# Altium footprint library WDFN6.PcbLib: 1 footprints
Each footprint in its own frame and in the unit in brackets; x right, y up, seen from the top. Pads: shape width x height; smd on the part's side, far side on the other; paste and mask are expansions set on the pad; w line width, h text height; cw(c..) or ccw(c..) is an arc to the next point about the centre after c.
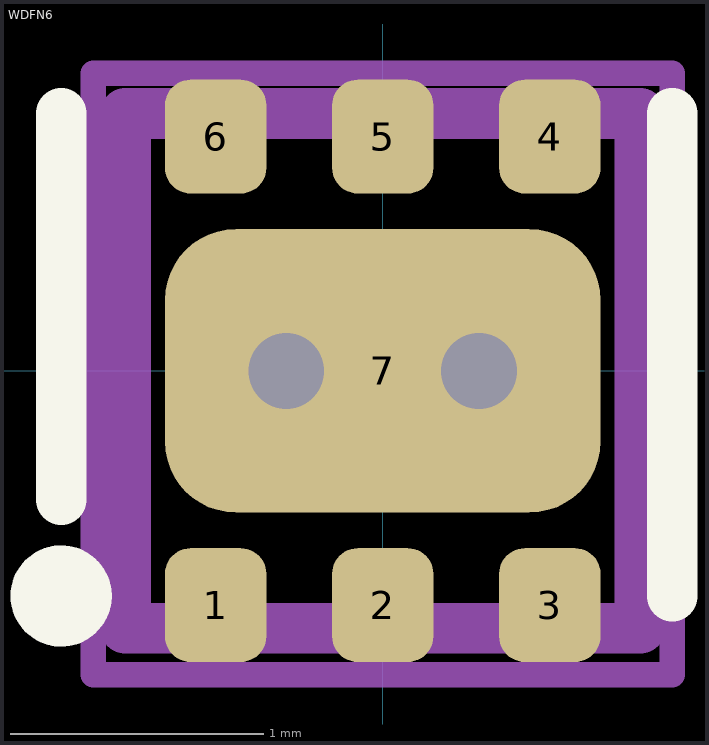
[diagram p0: the footprint, top view; thin cyan lines are the x and y axes]

## WDFN6 [mm]
pads (7):
  rrect50% 0.4x0.45 smd mask+0: 1(-0.66,-0.925) 2(0,-0.925) 3(0.66,-0.925) 4(0.66,0.925) 5(0,0.925) 6(-0.66,0.925)
  rrect50% 1.72x1.12 smd paste-0.03 mask+0: 7(0,0)
via 0.381,0 diameter 0.6 hole 0.3
via -0.381,0 diameter 0.6 hole 0.3
Top Overlay:
  circle w0.2: c-1.27,-0.889 r0.1
  lines w0.2: -1.27,-0.508 -1.27,1.016 ; 1.143,-0.889 1.143,1.016
Top Assembly:
  lines w0.2: -1.016,-1.016 1.016,-1.016 1.016,1.016 -1.016,1.016 -1.016,-1.016
Top Courtyard:
  lines w0.1: -1.143,-1.2 1.143,-1.2 1.143,1.175 -1.143,1.175 -1.143,-1.2
  lines w0.2: -0.254,0 0.254,0 ; 0,-0.254 0,0.254
3D body "User Library-DFN6.step": height 1, standoff 0, extent -1,-1.01 1,1.01